# EAGLE library part ESP-LIVE-SHIELD (library ESP-Live Shield)
A shield to mount underneath the ESP-Live board. The Live terminal is fused on the ESP-Live board. Neutral is connected directly to the mains. Extremem caution must be used with these pins! At least 5mm clearance must be provided if they are not used. This is marked on the PCB layout. The 5V pin is able to supply up to 1.5W. The 3.3V pin has limited supply current of around 50mA since it is used by the ESP-12F module.
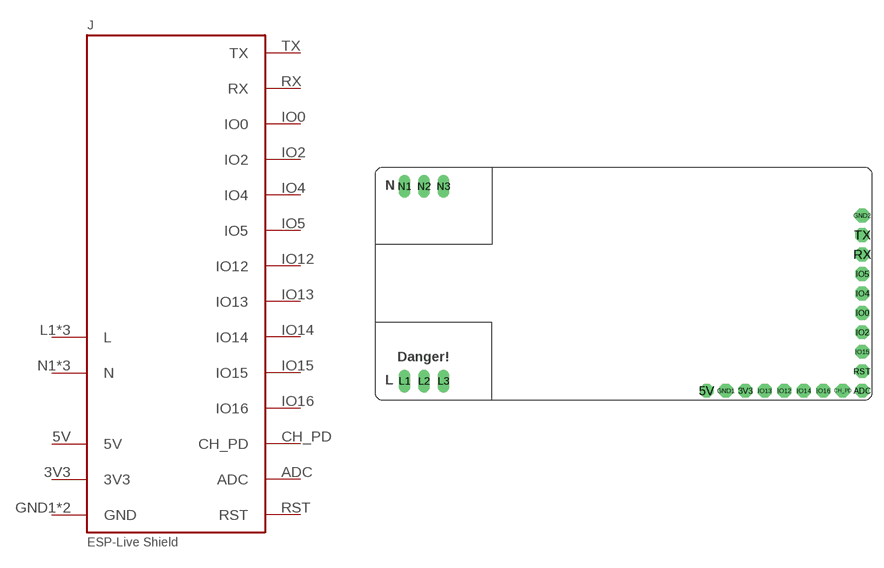
[diagram p0: symbol with the pads of ESP-LIVE-SHIELD; footprint ESP-LIVE-SHIELD]

Designator prefix J

## ESP-LIVE-SHIELD  [ESP-LIVE-SHIELD]
3V3  3V3  pwr
5V  5V  pwr
ADC  ADC
CH_PD  CH_PD
GND1  GND  pwr
GND2  GND  pwr
IO0  IO0
IO2  IO2
IO4  IO4
IO5  IO5
IO12  IO12
IO13  IO13
IO14  IO14
IO15  IO15
IO16  IO16
L1  L  pwr
L2  L  pwr
L3  L  pwr
N1  N  pwr
N2  N  pwr
N3  N  pwr
RST  RST
RX  RX
TX  TX

## Footprint ESP-LIVE-SHIELD (pad centres in mm)
drill 1 pad 1.778 octagon: 3V3 48.26,1.27; 5V 43.18,1.27; ADC 63.5,1.27; CH_PD 60.96,1.27; GND1 45.72,1.27; GND2 63.5,24.13; IO0 63.5,11.43; IO2 63.5,8.89; IO4 63.5,13.97; IO5 63.5,16.51; IO12 53.34,1.27; IO13 50.8,1.27; IO14 55.88,1.27; IO15 63.5,6.35; IO16 58.42,1.27; RST 63.5,3.81; RX 63.5,19.05; TX 63.5,21.59
drill 1 long: L1 3.81,2.54; L2 6.35,2.54; L3 8.89,2.54; N1 3.81,27.94; N2 6.35,27.94; N3 8.89,27.94